# Altium integrated library WS-PBSU_rev15a.IntLib: 1 symbol
Pins are listed as number, name and electrical type; pins without a type are passive.

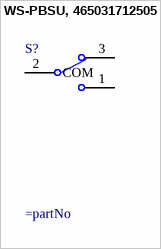
[diagram p0: symbol WS-PBSU, 465031712505]

## WS-PBSU, 465031712505
designator S?
WS-PBSU 9.8 x 18.5 mm SMD side push; Manufacturer: Wurth Elektronik; Part No.: 465031712505; ComponentLink1 Description: Manufacturer; ComponentLink2 Description: Datasheet; Created Date: Dec.2015; ComponentLink1URL: http://www.we-online.com; ComponentLink2URL: http://katalog.we-online.de/em/datasheet/465031712505.pdf; Created by: Baojun Chen
footprint 465031712505 (9.8x18.5mm left angle type, SMT, diameter of actuator: 2.8mm, SPDT, with bracket design, T/R)
pins: 1, 2 COM, 3